# Altium integrated library i2c_other_ics.IntLib: 5 symbols
Pins are listed as number, name and electrical type; pins without a type are passive.

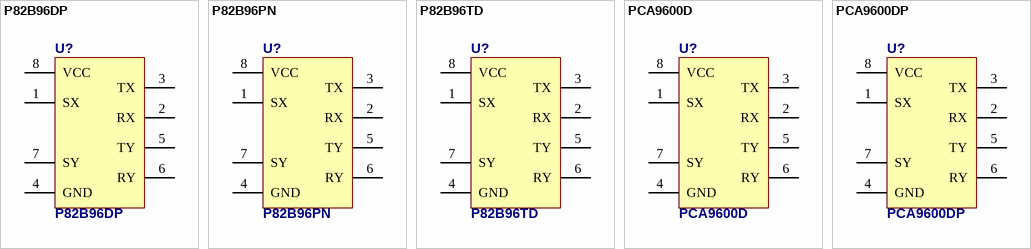
[diagram p0: symbols P82B96DP to PCA9600DP]

## P82B96DP
designator U?
Dual Bidirectional I2C Bus Buffer, TSSOP8 Package
footprint TSSOP8N
pins: 1 SX, 2 RX, 3 TX, 4 GND, 5 TY, 6 RY, 7 SY, 8 VCC

## P82B96PN
designator U?
Dual Bidirectional I2C Bus Buffer, DIP8 Package
footprint DIP8
pins: 1 SX, 2 RX, 3 TX, 4 GND, 5 TY, 6 RY, 7 SY, 8 VCC

## P82B96TD
designator U?
Dual Bidirectional I2C Bus Buffer, SO8 Package
footprint SO8 (Small Outline; 8 Leads; Body Width 3.7 mm; Pitch 1.27 mm)
pins: 1 SX, 2 RX, 3 TX, 4 GND, 5 TY, 6 RY, 7 SY, 8 VCC

## PCA9600D
designator U?
Dual Bidirectional I2C Bus Buffer, SO8 Package
footprint SO8 (Small Outline; 8 Leads; Body Width 3.7 mm; Pitch 1.27 mm)
pins: 1 SX, 2 RX, 3 TX, 4 GND, 5 TY, 6 RY, 7 SY, 8 VCC

## PCA9600DP
designator U?
Dual Bidirectional I2C Bus Buffer, TSSOP8 Package
footprint TSSOP8N
pins: 1 SX, 2 RX, 3 TX, 4 GND, 5 TY, 6 RY, 7 SY, 8 VCC